# EAGLE library part RJ45_MAG_LED_100M (library RJ Connector)
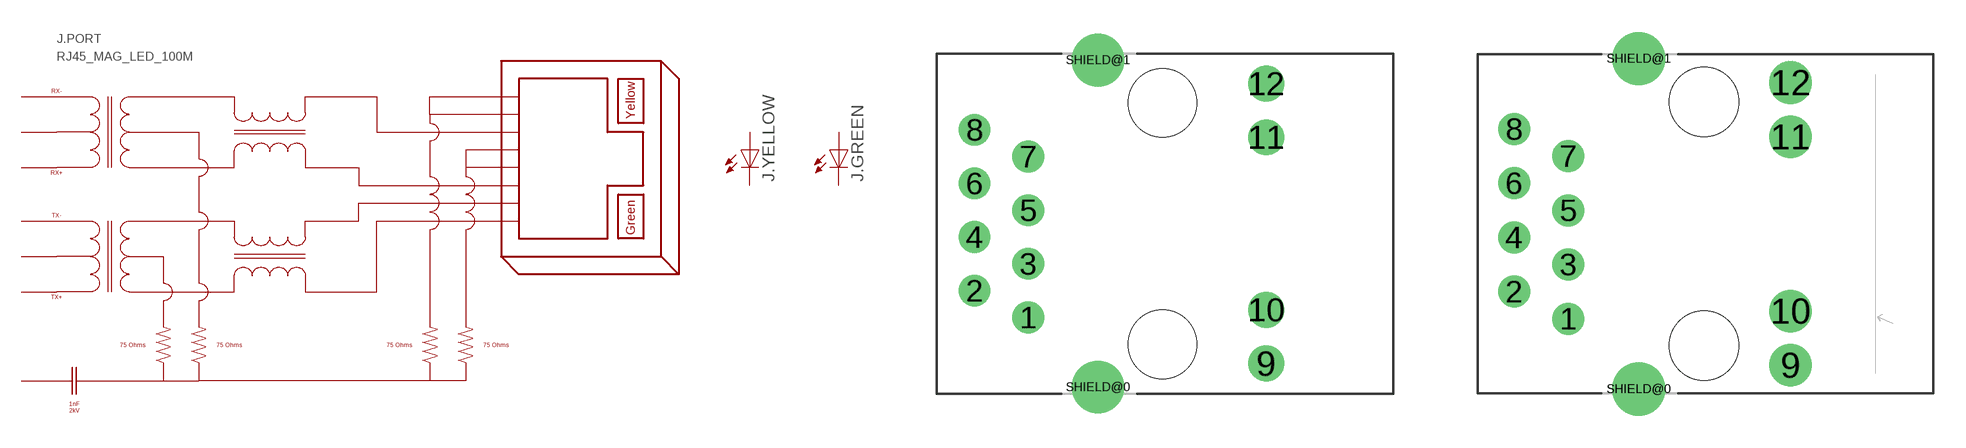
[diagram p4: symbol with the pads of RJ45_MAG_LED; footprints RJ45_MAG_LED, TE-2301994-9]

Designator prefix J; gates .PORT=8P_MAG_100M .YELLOW=LED .GREEN=LED

## RJ45_MAG_LED_100M  [RJ45_MAG_LED]
1  .PORT:TX+
2  .PORT:TX-
3  .PORT:RX+
4  .PORT:TCT
5  .PORT:RCT
6  .PORT:RX-
8  .PORT:CHS_GND
9  .GREEN:A  pas
10  .GREEN:C  pas
11  .YELLOW:C  pas
12  .YELLOW:A  pas
SHIELD@0  .PORT:CHS_GND
SHIELD@1  .PORT:CHS_GND

## RJ45_MAG_LED_100M-TE-2301994-9  [TE-2301994-9]
1  .PORT:TX+
2  .PORT:TX-
3  .PORT:RX+
4  .PORT:TCT
5  .PORT:RCT
6  .PORT:RX-
8  .PORT:CHS_GND
9  .YELLOW:C  pas
10  .YELLOW:A  pas
11  .GREEN:A  pas
12  .GREEN:C  pas
SHIELD@0  .PORT:CHS_GND
SHIELD@1  .PORT:CHS_GND

## Footprint RJ45_MAG_LED (pad centres in mm)
RJ45 RJ45 jacks side mounted http://www.tycoelectronics.com
drill 0.89 pad 1.5: 1 -6.35,-4.445; 2 -8.89,-3.175; 3 -6.35,-1.905; 4 -8.89,-0.635; 5 -6.35,0.635; 6 -8.89,1.905; 7 -6.35,3.175; 8 -8.89,4.445
drill 1.02 pad 1.7: 9 4.9,-6.625; 10 4.9,-4.085; 11 4.9,4.085; 12 4.9,6.625
drill 1.63 pad 2.5: SHIELD@0 -3.05,-7.745
drill 1.62 pad 2.5: SHIELD@1 -3.05,7.745
hole 3.25 at 0,-5.715
hole 3.25 at 0,5.715

## Footprint TE-2301994-9 (pad centres in mm)
RJ45 RJ45 jacks side mounted http://www.tycoelectronics.com
drill 0.89 pad 1.5: 1 -6.35,-4.445; 2 -8.89,-3.175; 3 -6.35,-1.905; 4 -8.89,-0.635; 5 -6.35,0.635; 6 -8.89,1.905; 7 -6.35,3.175; 8 -8.89,4.445
drill 1.02 pad 2: 9 4.06,-6.625; 10 4.06,-4.085; 11 4.06,4.085; 12 4.06,6.625
drill 1.63 pad 2.5: SHIELD@0 -3.05,-7.745
drill 1.62 pad 2.5: SHIELD@1 -3.05,7.745
hole 3.25 at 0,-5.715
hole 3.25 at 0,5.715